# EAGLE library part MCP1825T (library synfinatic)
Digikey No:- __MCP1825T-5002E/DCCT-ND__
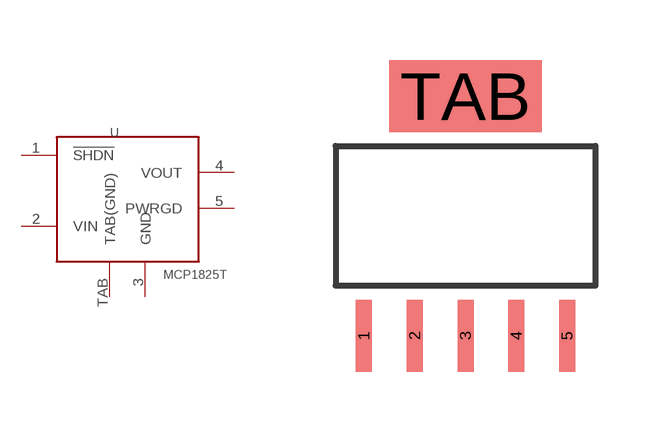
[diagram p7: symbol with the pads of SOT223-5; footprint SOT223-5]

Designator prefix -

## MCP1825T  [SOT223-5]
1  !SHDN
2  VIN
3  GND
4  VOUT
5  PWRGD
TAB  TAB(GND)

## Footprint SOT223-5 (pad centres in mm)
smd 0.4 x 1.8: 1 -2.54,-3; 2 -1.27,-3; 3 0,-3; 4 1.27,-3; 5 2.54,-3
smd 3.81 x 1.8: TAB 0,3